# Altium footprint library SOJ-36_400mil.PcbLib: 1 footprints
Each footprint in its own frame and in the unit in brackets; x right, y up, seen from the top. Pads: shape width x height; smd on the part's side, far side on the other; paste and mask are expansions set on the pad; w line width, h text height; cw(c..) or ccw(c..) is an arc to the next point about the centre after c.
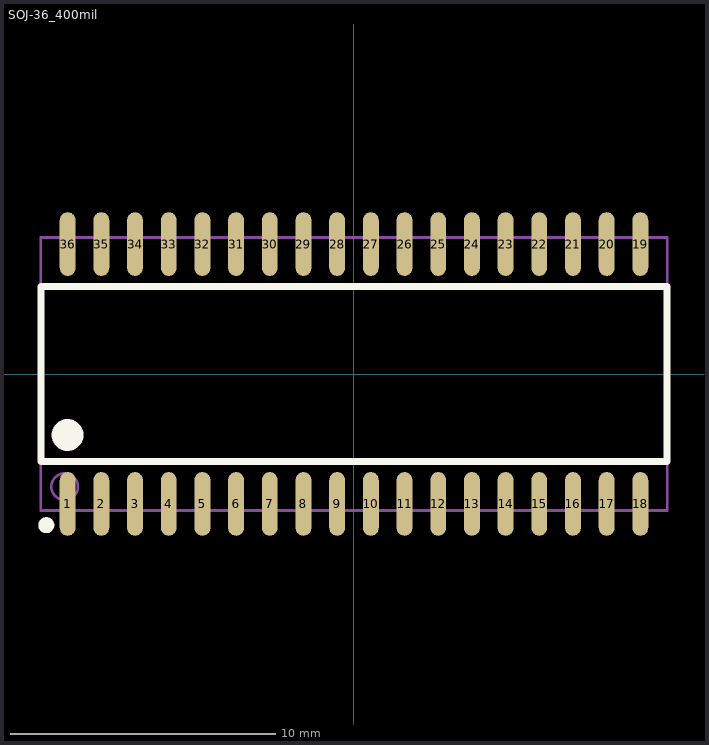
[diagram p0: the footprint, top view; thin cyan lines are the x and y axes]

## SOJ-36_400mil [mm]
pads (36):
  oval 0.6x2.4 smd: 1(-10.795,-4.9) 2(-9.525,-4.9) 3(-8.255,-4.9) 4(-6.985,-4.9) 5(-5.715,-4.9) 6(-4.445,-4.9) 7(-3.175,-4.9) 8(-1.905,-4.9) 9(-0.635,-4.9) 10(0.635,-4.9) 11(1.905,-4.9) 12(3.175,-4.9) 13(4.445,-4.9) 14(5.715,-4.9) 15(6.985,-4.9) 16(8.255,-4.9) 17(9.525,-4.9) 18(10.795,-4.9) 19(10.795,4.9) 20(9.525,4.9) 21(8.255,4.9) 22(6.985,4.9) 23(5.715,4.9) 24(4.445,4.9) 25(3.175,4.9) 26(1.905,4.9) 27(0.635,4.9) 28(-0.635,4.9) 29(-1.905,4.9) 30(-3.175,4.9) 31(-4.445,4.9) 32(-5.715,4.9) 33(-6.985,4.9) 34(-8.255,4.9) 35(-9.525,4.9) 36(-10.795,4.9)
Top Overlay:
  circle w0.3: c-11.6,-5.7 r0.15
  circle w0.6: c-10.8,-2.3 r0.3
  lines w0.254: -11.8,-3.3 11.8,-3.3 11.8,3.3 -11.8,3.3 -11.8,-3.3
Mechanical 13:
  circle w0.1: c-10.91,-4.245 r0.5
  lines w0.1: -11.81,-5.145 11.81,-5.145 11.81,5.145 -11.81,5.145 -11.81,-5.145